# EAGLE library part HM15 (library VgaGen)
SubD-Stecker 15-pol. HD Kantenmontage, nur Pins 1..10
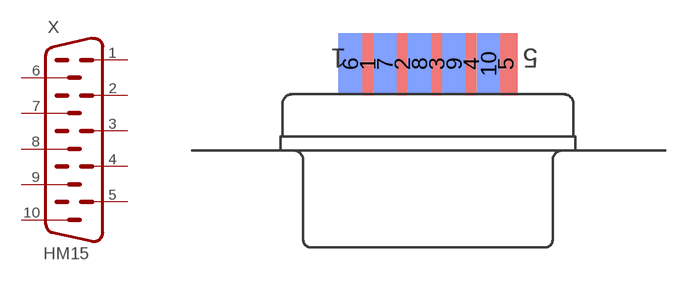
[diagram p3: symbol with the pads of HDM15H; footprint HDM15H]

Designator prefix X

## HM15  [HDM15H]
1  1  pas
2  2  pas
3  3  pas
4  4  pas
5  5  pas
6  6  pas
7  7  pas
8  8  pas
9  9  pas
10  10  pas

## Footprint HDM15H (pad centres in mm)
SubD-Stecker 15-pol. HD Kantenmontage, nur Pins 1..10
smd 1.5 x 4: 1 -3.938,2; 2 -1.688,2; 3 0.562,2; 4 2.812,2; 5 5.062,2
smd 1.5 x 4 bottom: 6 -5.062,2; 7 -2.812,2; 8 -0.562,2; 9 1.688,2; 10 3.938,2